# Altium footprint library pi_powerhat.PcbLib: 15 footprints
Each footprint in its own frame and in the unit in brackets; x right, y up, seen from the top. Pads: shape width x height; smd on the part's side, far side on the other; paste and mask are expansions set on the pad; w line width, h text height; cw(c..) or ccw(c..) is an arc to the next point about the centre after c.
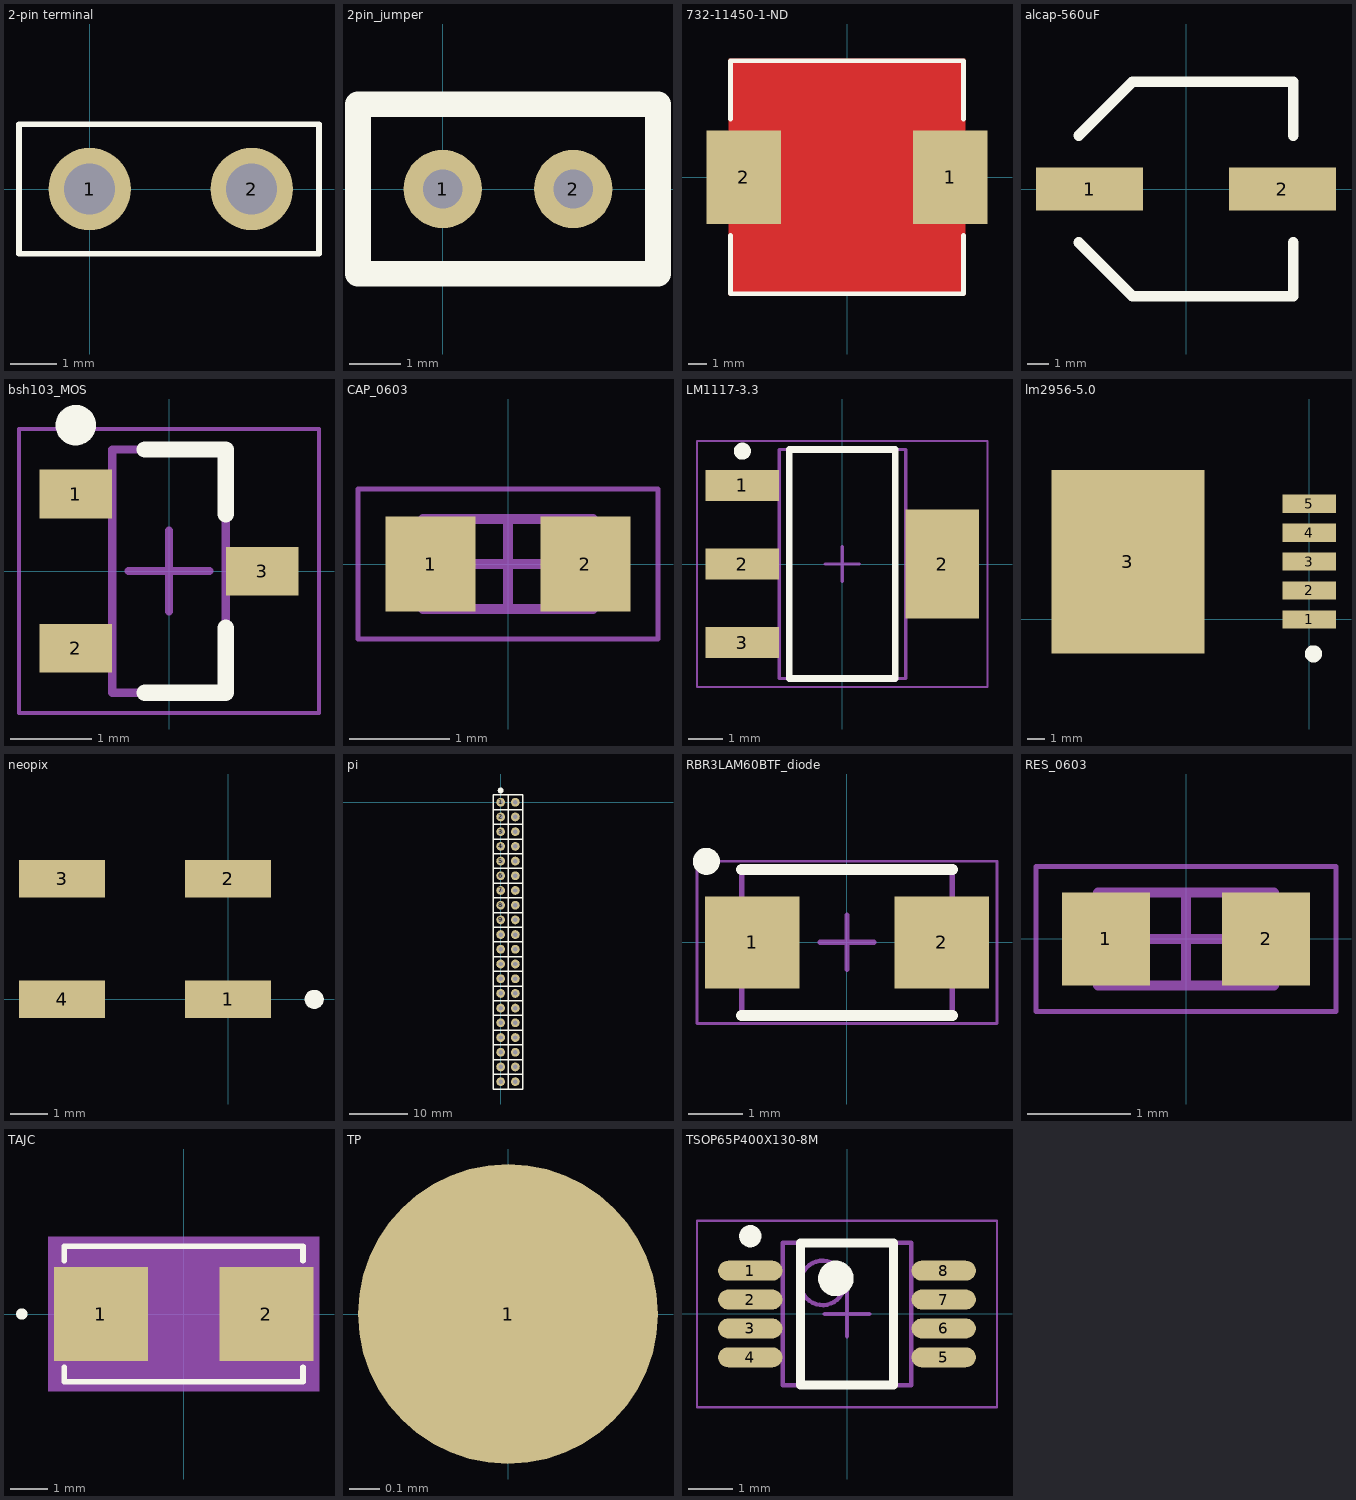
[diagram p0: the footprints below, top view; thin cyan lines are the x and y axes]

## 2-pin terminal [mil]
pads (2):
  round 70 hole 43.31: 1(0,0) 2(137.8,0)
Top Overlay:
  lines w5: -60,-55 195,-55 195,55 -60,55 -60,-55

## 2pin_jumper [mil]
pads (2):
  round 60 hole 30: 1(0,0) 2(100,0)
Top Overlay:
  lines w19.68: -65,-65 165,-65 165,65 -65,65 -65,-20 -65,-65

## 732-11450-1-ND [mm]
pads (2):
  rect 4x5 smd: 1(5.55,0) 2(-5.55,0)
Top Layer:
  pour cut-out: -6.35,6.35 6.35,6.35 6.35,-6.35 -6.35,-6.35
  pour cut-out: 0.762,-7.62
Top Overlay:
  lines w0.254: -6.25,-3.125 -6.25,-6.25 6.25,-6.25 6.25,-3.125 ; -6.25,3.125 -6.25,6.25 6.25,6.25 6.25,3.125

## alcap-560uF [mm]
pads (2):
  rect 5x2 smd: 1(-4.5,0) 2(4.5,0)
Top Overlay:
  lines w0.5: -5,-2.5 -2.5,-5 2.5,-5 5,-5 5,-2.5 ; -5,2.5 -2.5,5 2.5,5 5,5 5,2.5

## bsh103_MOS [mm] "SOT23, 3-Leads, Body 2.90x2.30mm, Pitch 0.95mm, IPC Medium Density"
height 1.1
pads (3):
  rect 0.9x0.6 smd: 1(-1.15,0.95) 2(-1.15,-0.95) 3(1.15,0)
Top Overlay:
  circle w0.25: c-1.15,1.8 r0.125
  lines w0.2: -0.3,-1.5 0.7,-1.5 0.7,-0.7 ; -0.3,1.5 0.7,1.5 0.7,0.7
Mechanical 13:
  lines w0.1: -0.7,-1.5 -0.7,1.5 0.7,1.5 0.7,-1.5 -0.7,-1.5
Mechanical 15:
  lines w0.05: -1.85,-1.75 -1.85,1.75 1.85,1.75 1.85,-1.75 -1.85,-1.75
  lines w0.1: -0.5,0 0.5,0 ; 0,-0.5 0,0.5
3D body "SOT95P230X110-3N.step": height 1.1, standoff 0, extent -1.3,-1.5 1.3,1.5

## CAP_0603 [mm] "Chip Capacitor, 2-Leads, Body 1.60x0.80mm, IPC Medium Density"
height 0.5
pads (2):
  rect 0.9x0.95 smd: 1(-0.775,0) 2(0.775,0)
Mechanical 13:
  lines w0.1: -0.85,-0.45 -0.85,0.45 0.85,0.45 0.85,-0.45 -0.85,-0.45
Mechanical 15:
  lines w0.05: -1.5,-0.75 -1.5,0.75 1.5,0.75 1.5,-0.75 -1.5,-0.75
  lines w0.1: -0.45,0 0.45,0 ; 0,-0.45 0,0.45
3D body "CAPC1608X05N.step": height 0.5, standoff 0, extent -0.85,-0.45 0.85,0.45

## LM1117-3.3 [mm] "LM1117-3.3"
pads (4):
  rect 2.15x0.9 smd: 1(-2.925,2.3) 2(-2.925,0) 3(-2.925,-2.3)
  rect 2.15x3.2 smd: 2(2.925,0)
Top Overlay:
  circle w0.25: c-2.925,3.3 r0.125
  lines w0.2: -1.55,-3.35 -1.55,3.35 1.55,3.35 1.55,-3.35 -1.55,-3.35
Mechanical 13:
  lines w0.1: -1.85,-3.35 -1.85,3.35 1.85,3.35 1.85,-3.35 -1.85,-3.35
Mechanical 15:
  lines w0.05: -4.25,-3.6 -4.25,3.6 4.25,3.6 4.25,-3.6 -4.25,-3.6
  lines w0.1: -0.5,0 0.5,0 ; 0,-0.5 0,0.5
3D body "LM1117-3.3.step": height 1.8, standoff 0, extent -3.5,-3.35 3.5,3.35

## lm2956-5.0 [mm]
pads (6):
  rect 3.16x1.07 smd: 1(0,0) 2(0,1.7) 3(0,3.4) 4(0,5.1) 5(0,6.8)
  rect 9x10.8 smd: 3(-10.67,3.4)
Top Overlay:
  circle w0.508: c0.254,-2.032 r0.254

## neopix [mm]
pads (4):
  rect 2.286x1 smd: 1(0,0) 2(0,3.2) 3(-4.4,3.2) 4(-4.4,0)
Top Overlay:
  circle w0.254: c2.286,0 r0.127

## pi [mil]
pads (40):
  round 60 hole 30: 1(0,0) 2(0,-100) 3(0,-200) 4(0,-300) 5(0,-400) 6(0,-500) 7(0,-600) 8(0,-700) 9(0,-800) 10(0,-900) 11(0,-1000) 12(0,-1100) 13(0,-1200) 14(0,-1300) 15(0,-1400) 16(0,-1500) 17(0,-1600) 18(0,-1700) 19(0,-1800) 20(0,-1900) 21(100,-1900) 22(100,-1800) 23(100,-1700) 24(100,-1600) 25(100,-1500) 26(100,-1400) 27(100,-1300) 28(100,-1200) 29(100,-1100) 30(100,-1000) 31(100,-900) 32(100,-800) 33(100,-700) 34(100,-600) 35(100,-500) 36(100,-400) 37(100,-300) 38(100,-200) 39(100,-100) 40(100,0)
Top Overlay:
  circle w20: c0,80 r10
  lines w10: -50,-1850 150,-1850 ; -50,-1750 150,-1750 ; -50,-1650 150,-1650 ; -50,-1550 150,-1550 ; -50,-1450 150,-1450 ; -50,-1350 150,-1350 ; -50,-1250 150,-1250 ; -50,-1150 150,-1150 ; -50,-1050 150,-1050 ; -50,-950 150,-950 ; -50,-850 150,-850 ; -50,-750 150,-750 ; -50,-650 150,-650 ; -50,-550 150,-550 ; -50,-450 150,-450 ; -50,-350 150,-350 ; -50,-250 150,-250 ; -50,-150 150,-150 ; -50,-50 150,-50 ; 50,-1950 50,50 ; -50,-1950 -50,50 150,50 150,-1950 -50,-1950

## RBR3LAM60BTF_diode [mm] "SODFL, 2-Leads, Body 2.50x4.70mm, IPC Medium Density"
height 1.05
pads (2):
  rect 1.75x1.7 smd: 1(-1.75,0) 2(1.75,0)
Top Overlay:
  circle w0.25: c-2.6,1.5 r0.125
  lines w0.2: -1.95,-1.35 1.95,-1.35 ; -1.95,1.35 1.95,1.35
Mechanical 13:
  lines w0.1: -1.95,-1.35 1.95,-1.35 1.95,1.35 -1.95,1.35 -1.95,-1.35
Mechanical 15:
  lines w0.05: -2.775,-1.5 2.775,-1.5 2.775,1.5 -2.775,1.5 -2.775,-1.5
  lines w0.1: -0.5,0 0.5,0 ; 0,-0.5 0,0.5
3D body "SODFL470X105-2N.step": height 1.05, standoff 0, extent -2.35,-1.35 2.35,1.35

## RES_0603 [mm] "Chip Resistor, 2-Leads, Body 1.60x0.80mm, IPC Medium Density"
height 0.5
pads (2):
  rect 0.85x0.9 smd: 1(-0.775,0) 2(0.775,0)
Mechanical 13:
  lines w0.1: -0.85,-0.45 0.85,-0.45 0.85,0.45 -0.85,0.45 -0.85,-0.45
Mechanical 15:
  lines w0.05: -1.45,-0.7 1.45,-0.7 1.45,0.7 -1.45,0.7 -1.45,-0.7
  lines w0.1: -0.45,0 0.45,0 ; 0,-0.45 0,0.45
3D body "RESC1608X05N.step": height 0.5, standoff 0, extent -0.85,-0.45 0.85,0.45

## TAJC [mil]
pads (2):
  rect 100x100 smd paste+0 mask+0: 1(-88,0) 2(88,0)
Top Overlay:
  circle w6: c-172,0 r3
  lines w6: -127,-56.45 -127,-72 127,-72 127,-56.45 ; -127,56.45 -127,72 127,72 127,56.45
Mechanical 5:
  region: 144,-82 -144,-82 -144,82 144,82
Mechanical 13:
  circle w0: c-112,0 r3
  lines w1: -122,-67 -122,67 122,67 122,-67 -122,-67
Mechanical 15:
  region: -126,-47.5 -129,-47.5 -129,47.5 -126,47.5 -126,71 126,71 126,47.5 129,47.5 129,-47.5 126,-47.5 126,-71 -126,-71
  lines w6: -129,-47.5 -126,-47.5 -126,-71 126,-71 126,-47.5 129,-47.5 129,47.5 126,47.5 126,71 -126,71 -126,47.5 -129,47.5 -129,-47.5
3D body: height 10, standoff 0, extent 0,0 10,10
3D body "TAJC.step": height 112.01, standoff 0, extent -122,-67 122.01,67.01

## TP [mm]
pads (1):
  round 1 smd: 1(0,0)

## TSOP65P400X130-8M [mm] "TSOP, 8-Leads, Body 2.95x2.80mm, Pitch 0.65mm, IPC Low Density"
height 1.3
pads (8):
  oval 1.45x0.45 smd: 1(-2.175,0.975) 2(-2.175,0.325) 3(-2.175,-0.325) 4(-2.175,-0.975) 5(2.175,-0.975) 6(2.175,-0.325) 7(2.175,0.325) 8(2.175,0.975)
Top Overlay:
  circle w0.25: c-2.175,1.75 r0.125
  circle w0.4: c-0.25,0.8 r0.2
  lines w0.2: -1.05,-1.6 -1.05,1.6 1.05,1.6 1.05,-1.6 -1.05,-1.6
Mechanical 13:
  circle w0.1: c-0.55,0.7 r0.5
  lines w0.1: -1.45,-1.6 -1.45,1.6 1.45,1.6 1.45,-1.6 -1.45,-1.6
Mechanical 15:
  lines w0.05: -3.375,-2.1 -3.375,2.1 3.375,2.1 3.375,-2.1 -3.375,-2.1
  lines w0.1: -0.5,0 0.5,0 ; 0,-0.5 0,0.5
3D body "TSOP65P400X130-8M.step": height 1.3, standoff 0, extent -2,-1.6 2,1.6